# Altium footprint library MGMEZZ04.PcbLib: 62 footprints (part 4 of 4)
Each footprint in its own frame and in the unit in brackets; x right, y up, seen from the top. Pads: shape width x height; smd on the part's side, far side on the other; paste and mask are expansions set on the pad; w line width, h text height; cw(c..) or ccw(c..) is an arc to the next point about the centre after c.
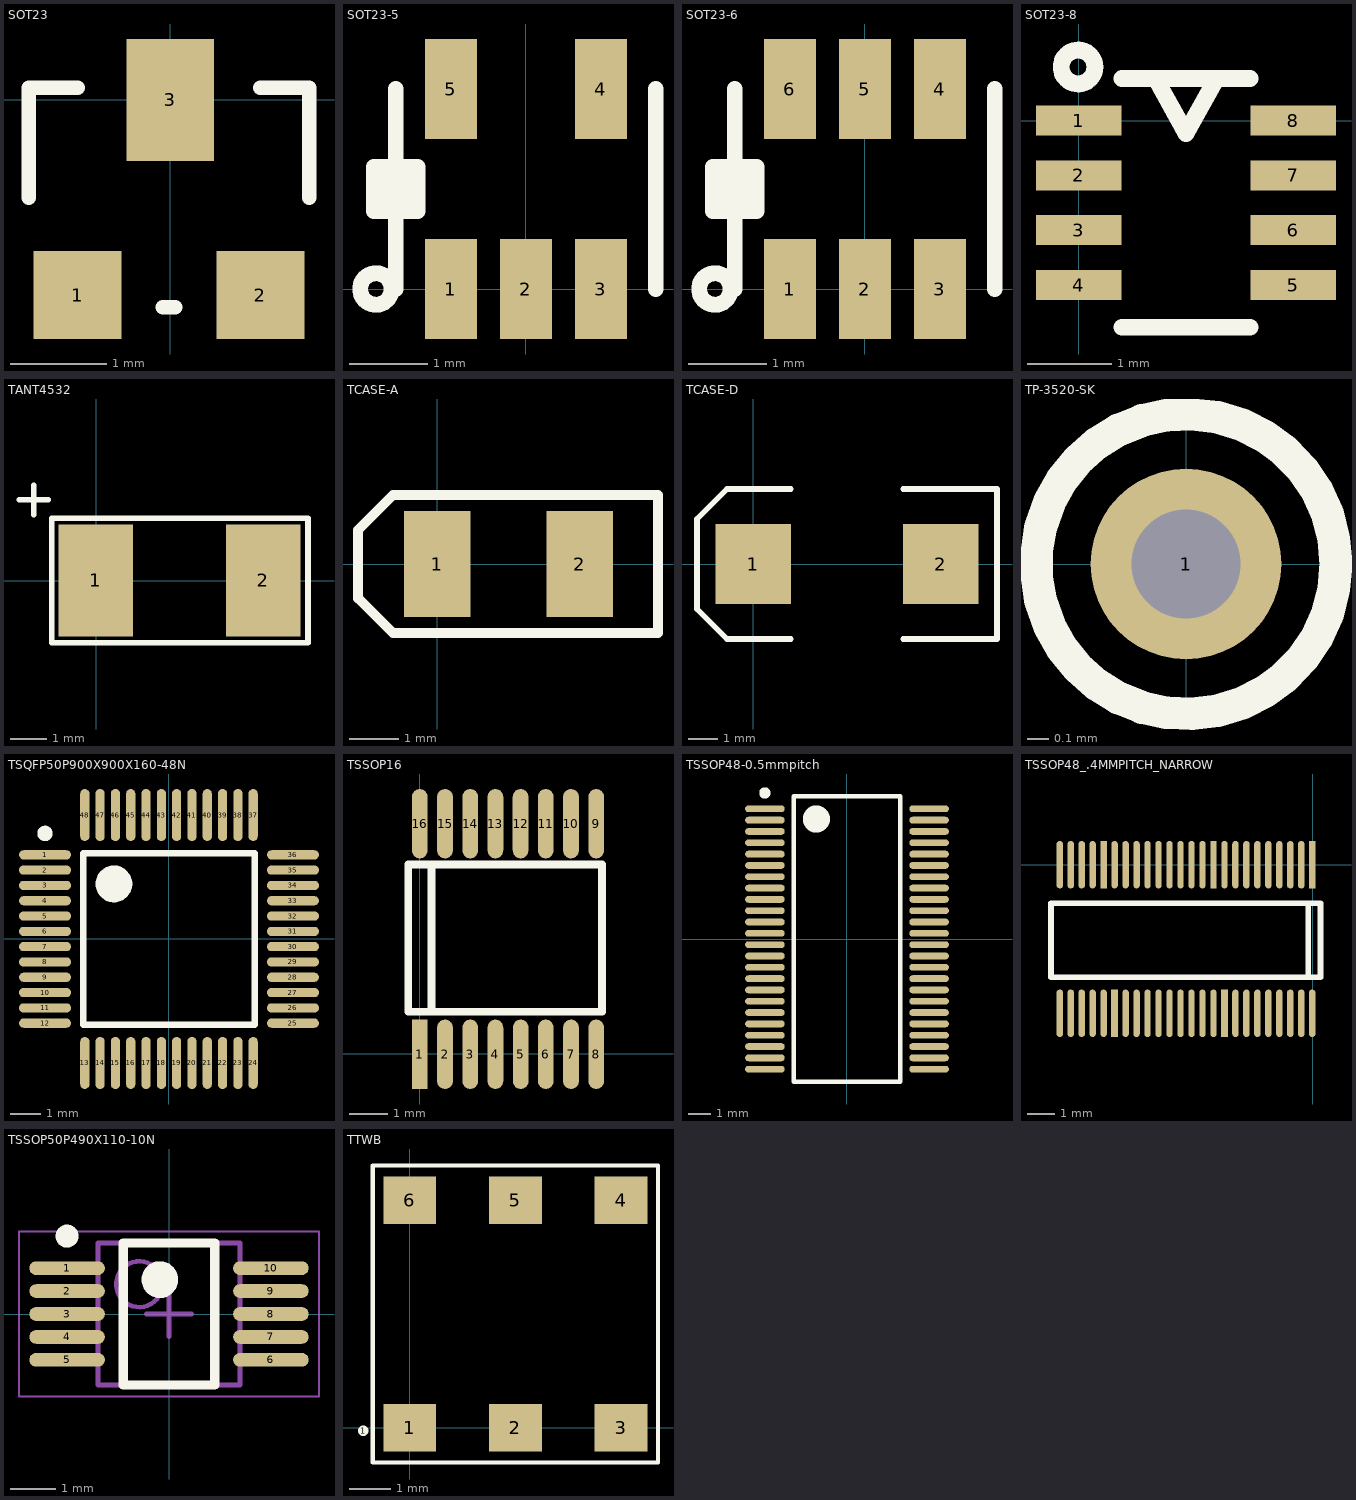
[diagram p3: the footprints below, top view; thin cyan lines are the x and y axes]

## SOT23 [mil]
pads (3):
  rect 36x36 smd: 1(-38,-80) 2(37,-80)
  rect 36x50 smd: 3(0,0)
Top Overlay:
  lines w6: -58,-40 -58,5 -38,5 ; -3,-85 2,-85 ; 37,5 57,5 57,-40

## SOT23-5 [mil]
pads (5):
  rect 26x50 smd: 1(-37.5,0) 2(0,0) 3(37.5,0) 4(37.5,100) 5(-37.5,100)
Top Overlay:
  circle w7.87: c-75,0 r7.87
  lines w7.87: -70,39 -70,61 ; -65,0 -65,100 ; -60,39 -60,61 ; 65,0 65,100 ; -76,39 -76,61 -54,61 -54,39 -76,39

## SOT23-6 [mil]
pads (6):
  rect 26x50 smd: 1(-37.5,0) 2(0,0) 3(37.5,0) 4(37.5,100) 5(0,100) 6(-37.5,100)
Top Overlay:
  circle w7.87: c-75,0 r7.87
  lines w7.87: -70,39 -70,61 ; -65,0 -65,100 ; -60,39 -60,61 ; 65,0 65,100 ; -76,39 -76,61 -54,61 -54,39 -76,39

## SOT23-8 [mil]
pads (8):
  rect 40x14 smd: 1(0,0) 2(0,-25.59) 3(0,-51.18) 4(0,-76.77) 5(100,-76.77) 6(100,-51.18) 7(100,-25.59) 8(100,0)
Top Overlay:
  circle w7.87: c-0.37,25 r7.87
  lines w7.87: 20,-96.46 80,-96.46 ; 20,19.68 80,19.68 ; 36.08,19.06 50,-6 63.78,18.81

## TANT4532 [mil]
pads (2):
  rect 80x120 smd: 1(-0.4,0.12) 2(179.6,0.12)
Top Overlay:
  lines w5.9: -83,86.65 -51.53,86.65 ; -67.27,70.92 -67.27,102.38
  lines w6: -47.6,-66.75 -47.6,66.98 227.73,66.98 227.73,-66.75 -47.6,-66.75

## TCASE-A [mm]
pads (2):
  rect 1.35x2.15 smd: 1(0,0) 2(2.9,0)
Top Overlay:
  lines w0.2: -1.609,-0.7 -1.609,0.691 ; -1.6,-0.7 -0.9,-1.4 4.491,-1.4 4.491,1.4 -0.9,1.4 -1.6,0.7

## TCASE-D [mm]
pads (2):
  rect 2.55x2.7 smd: 1(0,0) 2(6.35,0)
Top Overlay:
  lines w0.2: 1.27,-2.54 -0.889,-2.54 -1.905,-1.524 -1.905,1.524 -0.889,2.54 1.27,2.54 ; 5.08,-2.54 8.255,-2.54 8.255,2.54 5.08,2.54

## TP-3520-SK [mil]
pads (1):
  round 35 hole 20: 1(0,0)
Top Overlay:
  circle w6: c0,0 r27.5

## TSQFP50P900X900X160-48N [mm] "TSQFP, 48-Leads, Body 9.1x9.1mm (max), Pitch 0.50mm, IPC Medium Density"
height 1.6
pads (48):
  oval 1.7x0.3 smd: 1(-4.05,2.75) 2(-4.05,2.25) 3(-4.05,1.75) 4(-4.05,1.25) 5(-4.05,0.75) 6(-4.05,0.25) 7(-4.05,-0.25) 8(-4.05,-0.75) 9(-4.05,-1.25) 10(-4.05,-1.75) 11(-4.05,-2.25) 12(-4.05,-2.75) 25(4.05,-2.75) 26(4.05,-2.25) 27(4.05,-1.75) 28(4.05,-1.25) 29(4.05,-0.75) 30(4.05,-0.25) 31(4.05,0.25) 32(4.05,0.75) 33(4.05,1.25) 34(4.05,1.75) 35(4.05,2.25) 36(4.05,2.75)
  oval 0.3x1.7 smd: 13(-2.75,-4.05) 14(-2.25,-4.05) 15(-1.75,-4.05) 16(-1.25,-4.05) 17(-0.75,-4.05) 18(-0.25,-4.05) 19(0.25,-4.05) 20(0.75,-4.05) 21(1.25,-4.05) 22(1.75,-4.05) 23(2.25,-4.05) 24(2.75,-4.05) 37(2.75,4.05) 38(2.25,4.05) 39(1.75,4.05) 40(1.25,4.05) 41(0.75,4.05) 42(0.25,4.05) 43(-0.25,4.05) 44(-0.75,4.05) 45(-1.25,4.05) 46(-1.75,4.05) 47(-2.25,4.05) 48(-2.75,4.05)
Top Overlay:
  circle w0.25: c-4.05,3.45 r0.125
  circle w0.6: c-1.8,1.8 r0.3
  lines w0.2: -2.8,-2.8 -2.8,2.8 2.8,2.8 2.8,-2.8 -2.8,-2.8
3D body: height 1.6, standoff 0.05, extent -3.5,-3.5 3.5,3.5

## TSSOP16 [mil]
pads (16):
  rect 16x70.47 smd: 1(-0.1,-0.45)
  oval 16x70.47 smd: 2(25.5,-0.45) 3(51.1,-0.45) 4(76.7,-0.45) 5(102.3,-0.45) 6(127.9,-0.45) 7(153.5,-0.45) 8(179.03,-0.45) 9(179.03,233.8) 10(153.45,233.8) 11(127.85,233.8) 12(102.27,233.8) 13(76.67,233.8) 14(51.08,233.8) 15(25.48,233.8) 16(-0.1,233.8)
Top Overlay:
  lines w8: 11.7,46.75 11.7,190.32 ; -11.9,42.82 -11.9,192.28 184.77,192.28 184.77,42.82 -11.9,42.82

## TSSOP48-0.5mmpitch [mm] "TSSOP48-0.5mmpitch"
height 1.2
pads (48):
  oval 1.75x0.3 smd: 1(-3.625,5.75) 2(-3.625,5.25) 3(-3.625,4.75) 4(-3.625,4.25) 5(-3.625,3.75) 6(-3.625,3.25) 7(-3.625,2.75) 8(-3.625,2.25) 9(-3.625,1.75) 10(-3.625,1.25) 11(-3.625,0.75) 12(-3.625,0.25) 13(-3.625,-0.25) 14(-3.625,-0.75) 15(-3.625,-1.25) 16(-3.625,-1.75) 17(-3.625,-2.25) 18(-3.625,-2.75) 19(-3.625,-3.25) 20(-3.625,-3.75) 21(-3.625,-4.25) 22(-3.625,-4.75) 23(-3.625,-5.25) 24(-3.625,-5.75) 25(3.625,-5.75) 26(3.625,-5.25) 27(3.625,-4.75) 28(3.625,-4.25) 29(3.625,-3.75) 30(3.625,-3.25) 31(3.625,-2.75) 32(3.625,-2.25) 33(3.625,-1.75) 34(3.625,-1.25) 35(3.625,-0.75) 36(3.625,-0.25) 37(3.625,0.25) 38(3.625,0.75) 39(3.625,1.25) 40(3.625,1.75) 41(3.625,2.25) 42(3.625,2.75) 43(3.625,3.25) 44(3.625,3.75) 45(3.625,4.25) 46(3.625,4.75) 47(3.625,5.25) 48(3.625,5.75)
Top Overlay:
  circle w0.6: c-1.35,5.3 r0.3
  circle w0.25: c-3.625,6.45 r0.125
  lines w0.2: -2.35,-6.3 2.35,-6.3 2.35,6.3 -2.35,6.3 -2.35,-6.3
3D body: height 1.2, standoff 0.05, extent -3.1,-6.3 3.1,6.3

## TSSOP48_.4MMPITCH_NARROW [mil]
pads (48):
  rect 9x68 smd: 1(-0.4,0.25) 10(-141.7,0.25) 20(-298.7,0.25)
  oval 9x68 smd: 2(-16.1,0.25) 3(-31.8,0.25) 4(-47.5,0.25) 5(-63.2,0.25) 6(-78.9,0.25) 7(-94.6,0.25) 8(-110.3,0.25) 9(-126,0.25) 11(-157.4,0.25) 12(-173.1,0.25) 13(-188.8,0.25) 14(-204.5,0.25) 15(-220.2,0.25) 16(-235.9,0.25) 17(-251.6,0.25) 18(-267.3,0.25) 19(-283,0.25) 21(-314.4,0.25) 22(-330.1,0.25) 23(-345.8,0.25) 24(-361.5,0.25) 25(-361.5,-212.35) 26(-345.8,-212.35) 27(-330.1,-212.35) 28(-314.4,-212.35) 29(-298.7,-212.35) 31(-267.3,-212.35) 32(-251.6,-212.35) 33(-235.9,-212.35) 34(-220.2,-212.35) 35(-204.5,-212.35) 36(-188.8,-212.35) 37(-173.1,-212.35) 38(-157.4,-212.35) 39(-141.7,-212.35) 41(-110.3,-212.35) 42(-94.6,-212.35) 43(-78.9,-212.35) 44(-63.2,-212.35) 45(-47.5,-212.35) 46(-31.8,-212.35) 47(-16.1,-212.35) 48(-0.4,-212.35)
  rect 10x68 smd: 30(-283,-212.35) 40(-126,-212.35)
Top Overlay:
  lines w8: -5.9,-161.02 -5.9,-54.75 ; -374.07,-161.02 11.4,-161.02 11.4,-54.75 -374.07,-54.75 -374.07,-161.02

## TSSOP50P490X110-10N [mm] "TSSOP, 10-Leads, Body 3.00x3.00mm, Pitch 0.50mm, IPC Medium Density"
height 1.1
pads (10):
  oval 1.65x0.3 smd: 1(-2.225,1) 2(-2.225,0.5) 3(-2.225,0) 4(-2.225,-0.5) 5(-2.225,-1) 6(2.225,-1) 7(2.225,-0.5) 8(2.225,0) 9(2.225,0.5) 10(2.225,1)
Top Overlay:
  circle w0.4: c-0.2,0.75 r0.2
  circle w0.25: c-2.225,1.7 r0.125
  lines w0.2: -1,-1.55 1,-1.55 1,1.55 -1,1.55 -1,-1.55
Mechanical 13:
  circle w0.1: c-0.65,0.65 r0.5
  lines w0.1: -1.55,-1.55 1.55,-1.55 1.55,1.55 -1.55,1.55 -1.55,-1.55
Mechanical 15:
  lines w0.05: -3.275,-1.8 3.275,-1.8 3.275,1.8 -3.275,1.8 -3.275,-1.8
  lines w0.1: -0.5,0 0.5,0 ; 0,-0.5 0,0.5
3D body: height 1.1, standoff 0.15, extent -1.55,-1.55 1.55,1.55

## TTWB [mil] "Transformer"
height 185.04
pads (7):
  round 10 on Top Overlay: 1(-44,-3)
  rect 50x44.88 smd: 1(0,0) 2(100,0) 3(200,0) 4(200,215) 5(100,215) 6(0,215)
Top Overlay:
  lines w4: -35,-33 235,-33 235,248 -35,248 -35,-33